# EAGLE library part 6PIN_TERMINAL_5MM (library !Redox)
6 Pin Screw Terminal Block, 5mm pitch
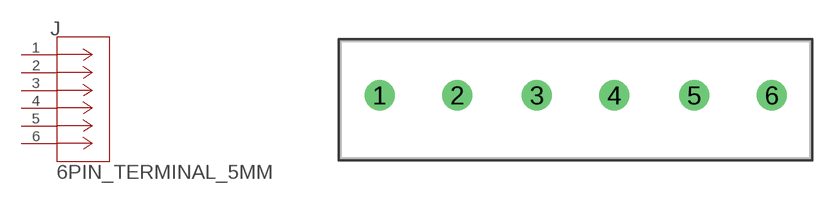
[diagram p3: symbol with the pads of 6PIN_TERMINAL_5MM; footprint 6PIN_TERMINAL_5MM]

Designator prefix J

## 6PIN_TERMINAL_5MM  [6PIN_TERMINAL_5MM]
1  1  pas
2  2  pas
3  3  pas
4  4  pas
5  5  pas
6  6  pas

## Footprint 6PIN_TERMINAL_5MM (pad centres in mm)
drill 1.295 pad 1.803: 1 -12.7,0; 2 -7.696,0; 3 -2.54,0; 4 2.464,0; 5 7.62,0; 6 12.624,0